# Altium footprint library button_pad_edited.PcbLib: 2 footprints
Each footprint in its own frame and in the unit in brackets; x right, y up, seen from the top. Pads: shape width x height; smd on the part's side, far side on the other; paste and mask are expansions set on the pad; w line width, h text height; cw(c..) or ccw(c..) is an arc to the next point about the centre after c.
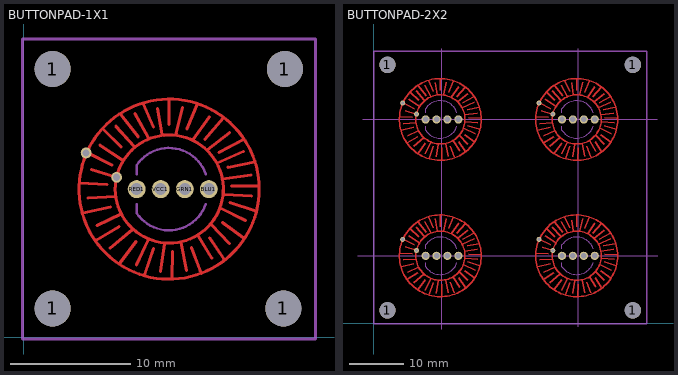
[diagram p0: the footprints below, top view; thin cyan lines are the x and y axes]

## BUTTONPAD-1X1 [mm]
pads (10):
  round 3 hole 3: 1(2.413,2.413) 1(2.413,22.352) 1(21.622,2.413) 1(21.749,22.352)
  round 1.5 hole 1: BLU1(15.413,12.352) GRN1(13.413,12.352) RED1(9.413,12.352) VCC1(11.413,12.352)
  round 0.9 hole 0.6: SIG1(5.201,15.365) SIG2(7.741,13.333)
Top Layer:
  circle w0.254: c12.113,12.352 r7.5
  lines w0.254: 4.633,12.862 6.933,12.722 ; 4.953,10.372 7.223,10.882 ; 5.273,15.392 7.333,14.352 ; 5.353,11.602 7.653,11.742 ; 5.636,13.993 7.653,13.352 ; 6.043,8.102 7.943,9.222 ; 6.103,9.332 8.103,10.272 ; 6.343,16.012 8.263,14.732 ; 6.613,17.352 8.113,15.852 ; 7.193,7.432 9.043,8.982 ; 7.673,17.592 9.203,15.902 ; 8.023,6.182 9.353,7.982 ; 8.103,18.552 9.523,16.712 ; 9.263,18.632 10.373,16.652 ; 9.383,6.042 10.373,8.132 ; 9.953,19.462 10.793,17.532 ; 10.083,5.272 10.823,7.402 ; 11.162,19.06 11.503,16.922 ; 11.403,5.512 11.743,7.782 ; 12.113,17.722 12.113,19.812 ; 12.333,4.912 12.403,7.142 ; 12.703,16.972 13.213,19.142 ; 13.103,7.892 13.553,5.592 ; 13.613,17.372 14.443,19.382 ; 13.963,7.472 14.703,5.542 ; 14.093,16.442 15.453,18.362 ; 14.523,8.452 15.661,6.602 ; 15.083,16.492 16.633,18.262 ; 15.293,15.612 17.123,17.052 ; 15.483,8.292 16.653,6.552 ; 15.613,9.412 17.123,7.832 ; 16.093,14.512 18.313,15.502 ; 16.253,15.402 18.263,16.472 ; 16.413,10.752 18.473,9.732 ; 16.523,13.212 16.542,13.215 ; 16.553,9.572 18.283,8.292 ; 16.713,11.922 18.983,11.762 ; 17.003,14.172 19.223,14.592 ; 17.163,11.232 19.333,10.532 ; 17.293,12.622 19.493,12.592 ; 18.923,13.532 16.542,13.215 ; 16.542,13.215 ccw(c12.123,12.362) 12.123,7.862 ccw(c12.123,12.362) 16.542,13.215
Top Solder:
  circle w0.254: c12.113,12.352 r7.5
  circle w0.254: c12.113,12.362 r4.511
  lines w0.254: 4.643,12.862 6.933,12.722 ; 4.943,10.372 7.223,10.882 ; 5.273,15.382 7.333,14.352 ; 5.353,11.602 7.653,11.752 ; 5.751,13.955 7.693,13.332 ; 5.993,8.072 7.943,9.222 ; 6.103,9.332 8.103,10.272 ; 6.343,16.012 8.203,14.782 ; 6.593,17.362 8.113,15.852 ; 7.193,7.432 9.063,9.012 ; 7.673,17.592 9.233,15.872 ; 8.013,6.132 9.353,7.982 ; 8.073,18.592 9.523,16.712 ; 9.263,18.632 10.373,16.652 ; 9.373,6.042 10.363,8.102 ; 9.933,19.502 10.793,17.532 ; 10.063,5.222 10.823,7.402 ; 11.184,18.937 11.533,16.832 ; 11.403,5.512 11.753,7.842 ; 12.113,17.722 12.113,19.842 ; 12.333,4.912 12.403,7.142 ; 12.673,16.862 13.213,19.142 ; 13.093,7.942 13.553,5.592 ; 13.613,17.372 14.453,19.392 ; 13.963,7.472 14.743,5.422 ; 14.113,16.452 15.453,18.362 ; 14.493,8.512 15.661,6.602 ; 15.083,16.492 16.643,18.272 ; 15.303,15.622 17.123,17.052 ; 15.483,8.292 16.683,6.512 ; 15.573,9.452 17.123,7.832 ; 16.143,14.532 18.313,15.502 ; 16.253,15.402 18.283,16.492 ; 16.343,10.782 18.473,9.732 ; 16.553,9.572 18.303,8.272 ; 16.583,13.212 18.923,13.532 ; 16.623,11.922 18.983,11.762 ; 17.003,14.172 19.243,14.592 ; 17.163,11.232 19.283,10.552 ; 17.283,12.622 19.573,12.592
Mechanical 2:
  text "C1" at 11.663,14.352 h1.57
Mechanical 3:
  lines w0.203: 9.413,11.102 9.413,10.352 ccw(c12.1,12.165) 15.163,11.102 ; 9.413,13.602 9.413,14.352 cw(c12.1,12.54) 15.163,13.602
  lines w0.254: -0.087,-0.127 24.289,-0.127 24.289,24.852 -0.087,24.852 -0.087,-0.127

## BUTTONPAD-2X2 [mm]
pads (28):
  round 3 hole 3: 1(2.508,2.373) 1(2.508,47.373) 1(47.508,2.373) 1(47.508,47.373)
  round 1.5 hole 1: BLU1(15.508,37.373) BLU2(40.508,37.373) BLU3(15.508,12.373) BLU4(40.508,12.373) GRN1(13.508,37.373) GRN2(38.508,37.373) GRN3(13.508,12.373) GRN4(38.508,12.373) RED1(9.508,37.373) RED2(34.508,37.373) RED3(9.508,12.373) RED4(34.508,12.373) VCC1(11.508,37.373) VCC2(36.508,37.373) VCC3(11.508,12.373) VCC4(36.508,12.373)
  round 0.9 hole 0.6: SIG1(5.296,40.386) SIG2(7.836,38.354) SIG3(30.296,40.386) SIG4(32.836,38.354) SIG5(5.296,15.386) SIG6(7.836,13.354) SIG7(30.296,15.386) SIG8(32.836,13.354)
Top Layer:
  circle w0.254: c37.208,12.373 r7.5
  circle w0.254: c37.208,37.373 r7.5
  circle w0.254: c12.208,12.373 r7.5
  circle w0.254: c12.208,37.373 r7.5
  lines w0.254: 4.728,12.883 7.028,12.743 ; 4.728,37.883 7.028,37.743 ; 5.048,10.393 7.318,10.903 ; 5.048,35.393 7.318,35.903 ; 5.368,15.413 7.428,14.373 ; 5.368,40.413 7.428,39.373 ; 5.448,11.623 7.748,11.763 ; 5.448,36.623 7.748,36.763 ; 5.731,39.014 7.748,38.373 ; 5.736,14.012 7.748,13.373 ; 6.138,8.123 8.038,9.243 ; 6.138,33.123 8.038,34.243 ; 6.198,9.353 8.198,10.293 ; 6.198,34.353 8.198,35.293 ; 6.438,16.033 8.358,14.753 ; 6.438,41.033 8.358,39.753 ; 6.708,17.373 8.208,15.873 ; 6.708,42.373 8.208,40.873 ; 7.288,7.453 9.138,9.003 ; 7.288,32.453 9.138,34.003 ; 7.768,17.613 9.298,15.923 ; 7.768,42.613 9.298,40.923 ; 8.118,6.203 9.448,8.003 ; 8.118,31.203 9.448,33.003 ; 8.198,18.573 9.618,16.733 ; 8.198,43.573 9.618,41.733 ; 9.358,18.653 10.468,16.673 ; 9.358,43.653 10.468,41.673 ; 9.478,6.063 10.468,8.153 ; 9.478,31.063 10.468,33.153 ; 10.048,19.483 10.888,17.553 ; 10.048,44.483 10.888,42.553 ; 10.178,5.293 10.918,7.423 ; 10.178,30.293 10.918,32.423 ; 11.243,19.166 11.598,16.943 ; 11.257,44.081 11.598,41.943 ; 11.498,5.533 11.838,7.803 ; 11.498,30.533 11.838,32.803 ; 12.208,17.743 12.208,19.833 ; 12.208,42.743 12.208,44.833 ; 12.428,4.933 12.498,7.163 ; 12.428,29.933 12.498,32.163 ; 12.798,16.993 13.308,19.163 ; 12.798,41.993 13.308,44.163 ; 13.198,7.913 13.648,5.613 ; 13.198,32.913 13.648,30.613 ; 13.708,17.393 14.538,19.403 ; 13.708,42.393 14.538,44.403 ; 14.058,7.493 14.798,5.563 ; 14.058,32.493 14.798,30.563 ; 14.188,16.463 15.548,18.383 ; 14.188,41.463 15.548,43.383 ; 14.618,8.473 15.756,6.604 ; 14.618,33.473 15.756,31.623 ; 15.178,16.513 16.728,18.283 ; 15.178,41.513 16.728,43.283 ; 15.388,15.633 17.218,17.073 ; 15.388,40.633 17.218,42.073 ; 15.578,8.313 16.748,6.573 ; 15.578,33.313 16.748,31.573 ; 15.708,9.433 17.218,7.853 ; 15.708,34.433 17.218,32.853 ; 16.188,14.533 18.408,15.523 ; 16.188,39.533 18.408,40.523 ; 16.348,15.423 18.358,16.493 ; 16.348,40.423 18.358,41.493 ; 16.508,10.773 18.568,9.753 ; 16.508,35.773 18.568,34.753 ; 16.618,13.233 16.637,13.235 ; 16.618,38.233 16.637,38.236 ; 16.648,9.593 18.378,8.313 ; 16.648,34.593 18.378,33.313 ; 16.808,11.943 19.078,11.783 ; 16.808,36.943 19.078,36.783 ; 17.098,14.193 19.318,14.613 ; 17.098,39.193 19.318,39.613 ; 17.258,11.253 19.428,10.553 ; 17.258,36.253 19.428,35.553 ; 17.388,12.643 19.588,12.613 ; 17.388,37.643 19.588,37.613 ; 19.018,13.553 16.637,13.235 ; 19.018,38.553 16.637,38.236 ; 29.728,12.883 32.028,12.743 ; 29.728,37.883 32.028,37.743 ; 30.048,10.393 32.318,10.903 ; 30.048,35.393 32.318,35.903 ; 30.368,15.413 32.428,14.373 ; 30.368,40.413 32.428,39.373 ; 30.448,11.623 32.748,11.763 ; 30.448,36.623 32.748,36.763 ; 30.748,39.008 32.748,38.373 ; 30.906,13.958 32.748,13.373 ; 31.138,8.123 33.038,9.243 ; 31.138,33.123 33.038,34.243 ; 31.198,9.353 33.198,10.293 ; 31.198,34.353 33.198,35.293 ; 31.438,16.033 33.358,14.753 ; 31.438,41.033 33.358,39.753 ; 31.708,17.373 33.208,15.873 ; 31.708,42.373 33.208,40.873 ; 32.288,7.453 34.138,9.003 ; 32.288,32.453 34.138,34.003 ; 32.768,17.613 34.298,15.923 ; 32.768,42.613 34.298,40.923 ; 33.118,6.203 34.448,8.003 ; 33.118,31.203 34.448,33.003 ; 33.198,18.573 34.618,16.733 ; 33.198,43.573 34.618,41.733 ; 34.358,18.653 35.468,16.673 ; 34.358,43.653 35.468,41.673 ; 34.478,6.063 35.468,8.153 ; 34.478,31.063 35.468,33.153 ; 35.048,19.483 35.888,17.553 ; 35.048,44.483 35.888,42.553 ; 35.178,5.293 35.918,7.423 ; 35.178,30.293 35.918,32.423 ; 36.257,44.078 36.598,41.943 ; 36.283,18.916 36.598,16.943 ; 36.498,5.533 36.838,7.803 ; 36.498,30.533 36.838,32.803 ; 37.208,17.743 37.208,19.833 ; 37.208,42.743 37.208,44.833 ; 37.428,4.933 37.498,7.163 ; 37.428,29.933 37.498,32.163 ; 37.798,16.993 38.308,19.163 ; 37.798,41.993 38.308,44.163 ; 38.198,7.913 38.648,5.613 ; 38.198,32.913 38.648,30.613 ; 38.708,17.393 39.538,19.403 ; 38.708,42.393 39.538,44.403 ; 39.058,7.493 39.798,5.563 ; 39.058,32.493 39.798,30.563 ; 39.188,16.463 40.548,18.383 ; 39.188,41.463 40.548,43.383 ; 39.618,8.473 40.671,6.67 ; 39.618,33.473 40.741,31.55 ; 40.178,16.513 41.728,18.283 ; 40.178,41.513 41.728,43.283 ; 40.388,15.633 42.218,17.073 ; 40.388,40.633 42.218,42.073 ; 40.578,8.313 41.748,6.573 ; 40.578,33.313 41.748,31.573 ; 40.708,9.433 42.218,7.853 ; 40.708,34.433 42.218,32.853 ; 41.188,14.533 43.408,15.523 ; 41.188,39.533 43.408,40.523 ; 41.348,15.423 43.358,16.493 ; 41.348,40.423 43.358,41.493 ; 41.508,10.773 43.568,9.753 ; 41.508,35.773 43.568,34.753 ; 41.618,13.233 41.637,13.235 ; 41.618,38.233 41.637,38.236 ; 41.648,9.593 43.378,8.313 ; 41.648,34.593 43.378,33.313 ; 41.808,11.943 44.078,11.783 ; 41.808,36.943 44.078,36.783 ; 42.098,14.193 44.318,14.613 ; 42.098,39.193 44.318,39.613 ; 42.258,11.253 44.428,10.553 ; 42.258,36.253 44.428,35.553 ; 42.388,12.643 44.588,12.613 ; 42.388,37.643 44.588,37.613 ; 44.018,13.553 41.637,13.235 ; 44.018,38.553 41.637,38.236 ; 16.637,13.235 cw(c12.218,12.383) 12.218,7.883 cw(c12.218,12.383) 16.637,13.235 ; 16.637,38.236 cw(c12.218,37.383) 12.218,32.883 cw(c12.218,37.383) 16.637,38.236 ; 41.637,13.235 cw(c37.218,12.383) 37.218,7.883 cw(c37.218,12.383) 41.637,13.235 ; 41.637,38.236 cw(c37.218,37.383) 37.218,32.883 cw(c37.218,37.383) 41.637,38.236
Top Solder:
  drawing of 168 lines, arcs and shapes, not listed
Mechanical 2:
  text "C1" at 11.758,39.373 h1.57
  text "C2" at 36.758,39.373 h1.57
  text "C3" at 11.758,14.373 h1.57
  text "C4" at 36.758,14.123 h1.57
Mechanical 3:
  lines w0.203: 9.508,11.123 9.508,10.373 ccw(c12.196,12.185) 15.258,11.123 ; 9.508,13.623 9.508,14.373 cw(c12.196,12.561) 15.258,13.623 ; 9.508,36.123 9.508,35.373 ccw(c12.196,37.186) 15.258,36.123 ; 9.508,38.623 9.508,39.373 cw(c12.196,37.561) 15.258,38.623 ; 34.508,11.123 34.508,10.373 ccw(c37.196,12.186) 40.258,11.123 ; 34.508,13.623 34.508,14.373 cw(c37.196,12.561) 40.258,13.623 ; 34.508,36.123 34.508,35.373 ccw(c37.196,37.186) 40.258,36.123 ; 34.508,38.623 34.508,39.373 cw(c37.196,37.561) 40.258,38.623
  lines w0.254: 0.008,-0.127 0.008,49.873 50.008,49.873 50.008,-0.127 0.008,-0.127
Mechanical 16:
  lines w0.127: -2.889,12.373 52.111,12.373 ; -1.992,37.373 52.008,37.373 ; 12.508,-1.127 12.508,50.373 ; 37.508,-0.627 37.508,50.373